# Altium schematic symbol library SYNCBOX_V3I1_1.SCHLIB: 99 symbols (part 3 of 3)
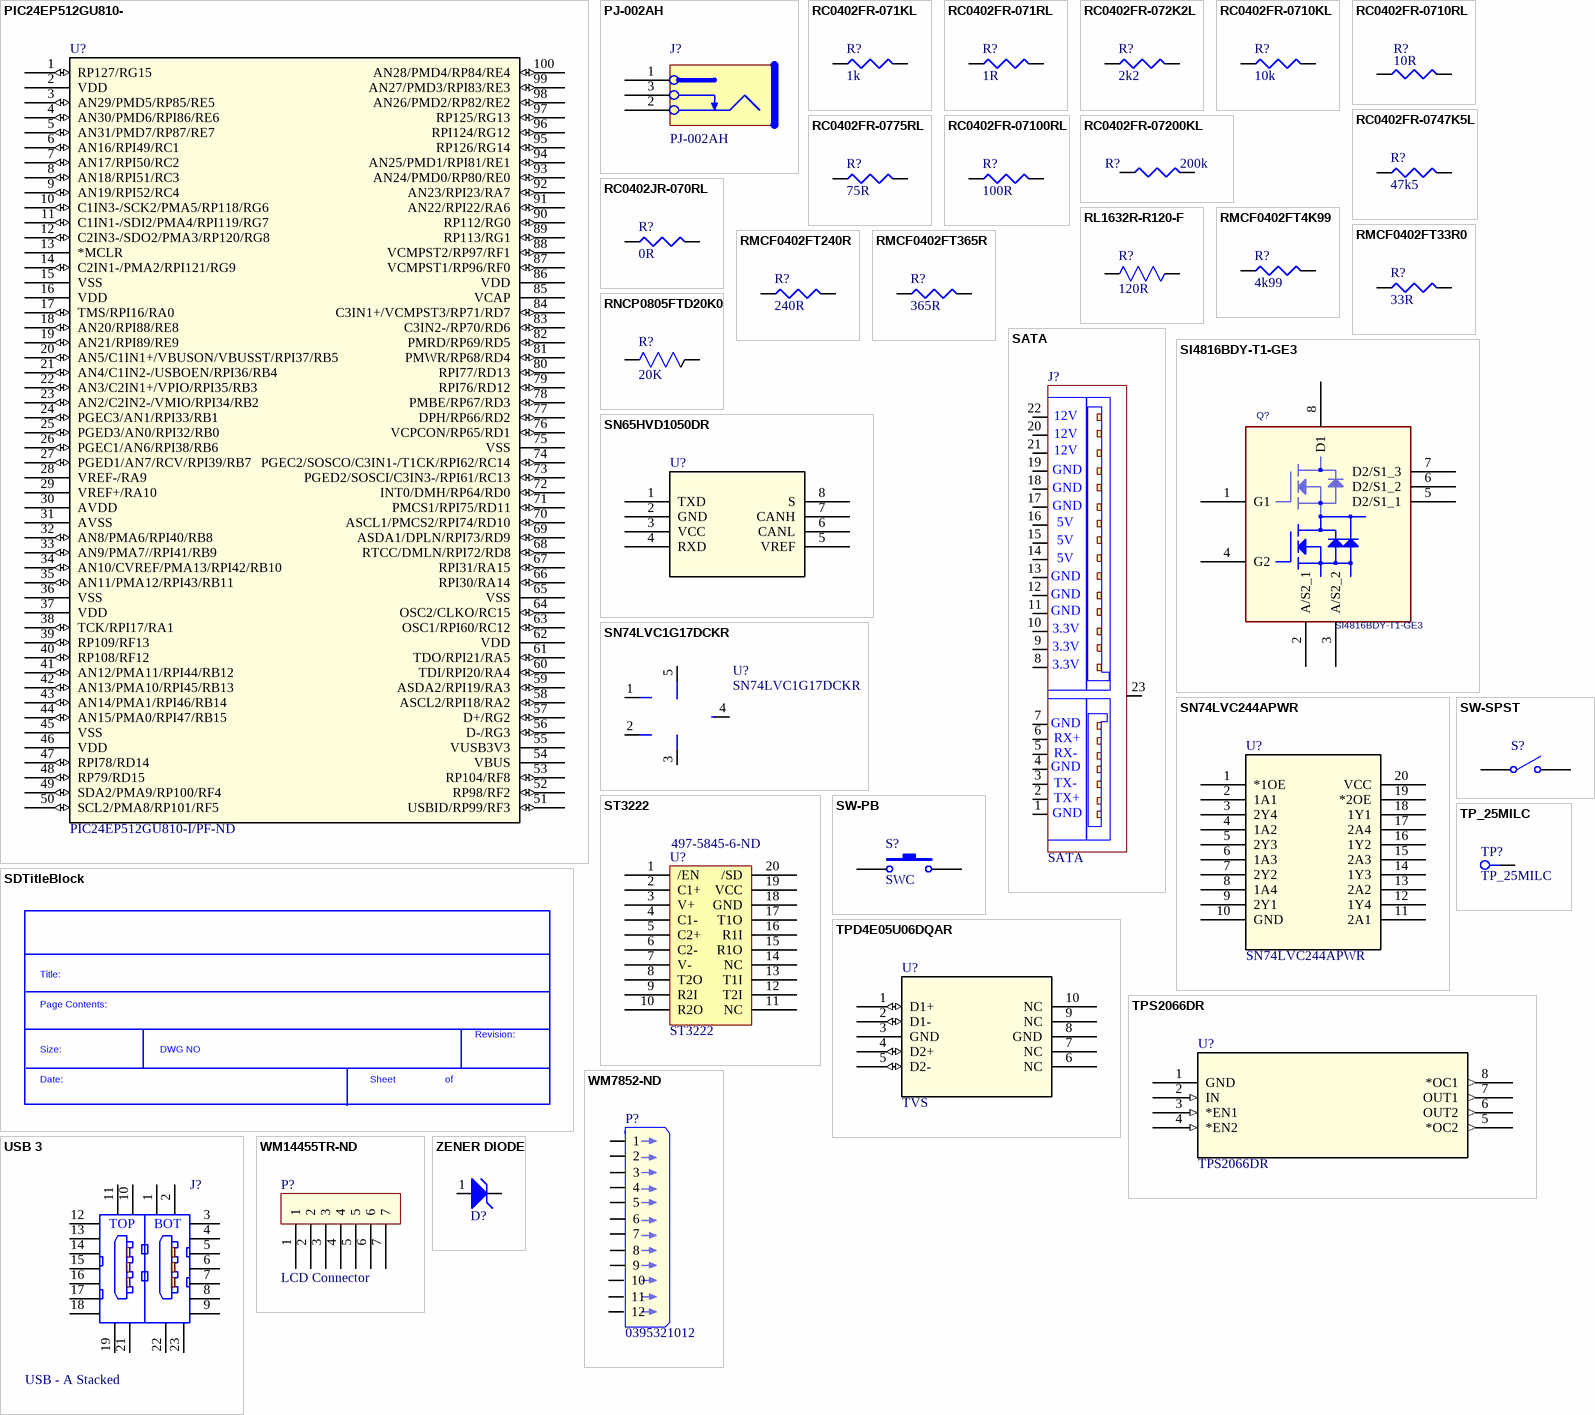
[diagram p4: symbols PIC24EP512GU810- to ZENER DIODE]

## RMCF0402FT33R0
designator R?, comment 33R
RES TF 33 OHM 1% 1/16W 0402; Manufacturer: Stackpole Electronics Inc; Manufacturer Part Number: RMCF0402FT33R0; Resistance (Ohms): 33; Power (Watts): 0.063W, 1/16W; .Checked PCB: CHK; Temperature Coefficient: ±100ppm/°C; Category: Resistors; Supplier Part Number: RMCF0402FT33R0CT-ND; Package / Case: 0402 (1005 Metric); Price 1k [$]: 0.00384; Tolerance: ±1%; Value: 33R; .Checked SCH: CHK; Supplier: Digikey; Supplier 1: Digi-Key; Supplier Part Number 1: RMCF0402FT33R0CT-ND; RoHS: RoHS Compliant; Stock 1: 26866; Pricing 1: 1=0.04, 10=0.025, 50=0.0138, 100=0.0105, 250=0.0078, 500=0.00576, 1000=0.00384 (USD); Composition: Thick Film; Features: -; Size / Dimension: 0.039" L x 0.020" W (1.00mm x 0.50mm); Height: 0.016" (0.40mm); Number of Terminations: 2; Packaging: Cut Tape (CT); ComponentLink1URL: http://www.seielect.com/Catalog/SEI-RMCF.pdf; ComponentLink1Description: http://www.seielect.com/Catalog/SEI-RMCF.pdf
footprint R0402
pins: 1, 2

## RMCF0402FT240R
designator R?, comment 240R
RES TF 240 OHM 1% 0.0625W 0402; Manufacturer: Stackpole Electronics Inc; Manufacturer Part Number: RMCF0402FT240R; Resistance (Ohms): 240; Power (Watts): 0.063W, 1/16W; .Checked PCB: CHK; Temperature Coefficient: ±100ppm/°C; Category: Resistors; Supplier Part Number: RMCF0402FT240RCT-ND; Package / Case: 0402 (1005 Metric); Price 1k [$]: 0.00384; Tolerance: ±1%; Value: 240R; .Checked SCH: CHK; Supplier: Digikey; Supplier 1: Digi-Key; Supplier Part Number 1: RMCF0402FT240RCT-ND; RoHS: RoHS Compliant; Stock 1: 39860; Pricing 1: 1=0.04, 10=0.025, 50=0.0138, 100=0.0105, 250=0.0078, 500=0.00576, 1000=0.00384 (USD); Composition: Thick Film; Features: -; Size / Dimension: 0.039" L x 0.020" W (1.00mm x 0.50mm); Height: 0.016" (0.40mm); Number of Terminations: 2; Packaging: Cut Tape (CT); ComponentLink1URL: http://www.seielect.com/Catalog/SEI-RMCF.pdf; ComponentLink1Description: http://www.seielect.com/Catalog/SEI-RMCF.pdf
footprint R0402
pins: 1, 2

## RMCF0402FT365R
designator R?, comment 365R
RES TF 365 OHM 1% 1/16W 0402; Manufacturer: Stackpole Electronics Inc; Manufacturer Part Number: RMCF0402FT365R; Resistance (Ohms): 365; Power (Watts): 0.063W, 1/16W; .Checked PCB: CHK; Temperature Coefficient: ±100ppm/°C; Category: Resistors; Supplier Part Number: RMCF0402FT365RCT-ND; Package / Case: 0402 (1005 Metric); Price 1k [$]: 0.00384; Tolerance: ±1%; Value: 365R; .Checked SCH: CHK; Supplier: Digikey; Supplier 1: Digi-Key; Supplier Part Number 1: RMCF0402FT365RCT-ND; RoHS: RoHS Compliant; Stock 1: 28385; Pricing 1: 1=0.04, 10=0.025, 50=0.0138, 100=0.0105, 250=0.0078, 500=0.00576, 1000=0.00384 (USD); Composition: Thick Film; Features: -; Size / Dimension: 0.039" L x 0.020" W (1.00mm x 0.50mm); Height: 0.016" (0.40mm); Number of Terminations: 2; Packaging: Cut Tape (CT); ComponentLink1URL: http://www.seielect.com/Catalog/SEI-RMCF.pdf; ComponentLink1Description: http://www.seielect.com/Catalog/SEI-RMCF.pdf
footprint R0402
pins: 1, 2

## RNCP0805FTD20K0
designator R?, comment 20K
Imported; Manufacturer_Part_Number: RNCP0805FTD20K0; Manufacturer 1: Stackpole Electronics Inc.; Vendor: Stackpole International; Built_By: EMA_UL_Team; C: Copyright (C) 2015 Accelerated Designs. All rights reserved; Tolerance: ±1%; Power (Watts): 0.25W, 1/4W; Temperature Coefficient: ±100ppm/°C; Description 1: RES 20K OHM 1% 1/4W 0805; .Checked PCB: CHK; RefDes: RefDes; Type: DEV; Value: 20K; Manufacturer Part Number 1: RNCP0805FTD20K0; RoHS: RoHS Compliant; Stock 1: 29130; Pricing 1: 1=0.1, 10=0.037, 100=0.015, 1000=0.00673, 2500=0.00584 (USD); Packaging: Cut Tape (CT); Part Status: Active; Composition: Thin Film; Features: Anti-Sulfur, Moisture Resistant; Operating Temperature: -55°C ~ 155°C; Package / Case: 0805 (2012 Metric); Supplier Device Package: 0805; Size / Dimension: 0.079" L x 0.049" W (2.01mm x 1.25mm); Height - Seated (Max): 0.024" (0.60mm); Failure Rate: -; ComponentLink1URL: https://www.seielect.com/Catalog/SEI-rncp.pdf; ComponentLink1Description: https://www.seielect.com/Catalog/SEI-rncp.pdf; Supplier 1: Digi-Key; Supplier Part Number 1: RNCP0805FTD20K0CT-ND; Category: Resistors; .Checked SCH: CHK
footprint STA_RNCP0805
pins: 1, 2

## SATA
designator J?
CONN SATA RECEPT 22POS SMD R/A; Manufacturer 1: Molex, LLC; Manufacturer Part Number 1: 0470182000; Connector Style: Receptacle; Number of Positions: 22; .Checked PCB: CHK; RoHS: RoHS Compliant; Stock 1: 2490; Pricing 1: 1=6.29, 10=6.028, 25=5.5036, 50=5.2414, 100=4.9793, 250=4.4552, 500=4.19312, 1000=3.66898, 2500=3.48553 (USD); Packaging: Tray; Part Status: Active; Connector Type: SATA; Mounting Type: Surface Mount, Right Angle; Termination: Solder; Features: Board Lock; Contact Finish: Gold; Contact Finish Thickness: Flash; ComponentLink1URL: https://www.molex.com/pdm_docs/sd/470182000_sd.pdf; ComponentLink1Description: https://www.molex.com/pdm_docs/sd/470182000_sd.pdf; Supplier 1: Digi-Key; Supplier Part Number 1: WM4050-ND; Description 1: CONN SATA RECEPT 22POS SMD R/A; Category: Connectors, Interconnects; .Checked SCH: CHK
footprint SATA_Recepticle (22 Pin Sata Connector)
pins: 1, 2, 3, 4, 5, 6, 7, 8, 9, 10, 11, 12, 13, 14, 15, 16, 17, 18, 19, 20, 21, 22, 23
text: 12V; GND; 5V; 3.3V; RX+; RX-; TX-; TX+

## SDTitleBlock
designator *?  (value not drawn)  (graphical)
text: Title:; Page Contents:; Revision:; Size:; DWG NO; Date:; Sheet; of

## SI4816BDY-T1-GE3
designator Q?
MOSFET DL N-CH 30V 6.8A 8-SOIC; Manufacturer: Vishay/Siliconix; .Checked PCB: CHK; FET Type: 2 N-Channel (Dual); FET Feature: Logic Level Gate; Rds On (Max) @ Id, Vgs: 18.5 mOhm @ 6.8A, 10V; Current - Continuous Drain (Id) @ 25° C: 5.8A, 8.2A; Vgs(th) (Max) @ Id: 3V @ 250µA; Power - Max: 1W, 1.25W; Gate Charge (Qg) @ Vgs: 10nC @ 5V; .Checked SCH: CHK; Category: Discrete Semiconductor Products; Manufacturer Part Number: SI4816BDY-T1-GE3; Package / Case: 8-SOIC (0.154", 3.90mm Width); Price 1k [$]: 0.84800; Value: SI4816BDY-T1-GE3; Family: FETs - Arrays; Drain to Source Voltage (Vdss): 30V; Supplier Part Number: SI4816BDY-T1-GE3CT-ND; Supplier: Digikey; Supplier 1: Digi-Key; Supplier Part Number 1: SI4816BDY-T1-GE3CT-ND; RoHS: RoHS Compliant; Stock 1: 15735; Pricing 1: 1=1.84, 25=1.4228, 100=1.2912, 250=1.1594, 500=1.0013, 1000=0.8432 (USD); Input Capacitance (Ciss) @ Vds: -; Mounting Type: Surface Mount; Supplier Device Package: 8-SOICN; Packaging: Cut Tape (CT); ComponentLink1URL: http://www.vishay.com/docs/73026/si4816bd.pdf; ComponentLink1Description: http://www.vishay.com/docs/73026/si4816bd.pdf
pins: 1 G1, 2 A/S2_1, 3 A/S2_2, 4 G2, 5 D2/S1_1, 6 D2/S1_2, 7 D2/S1_3, 8 D1

## SN65HVD1050DR
designator U?
IC EMC CAN TRANSCEIVER 8-SOIC; Manufacturer: Texas Instruments; Manufacturer_Part_Number: SN65HVD1050DR; Built_By: EMA_UL_Team; C: Copyright (C) 2015 Accelerated Designs. All rights reserved; Protocol: CANbus; Number of Drivers/Receivers: 1/1; Duplex: Half; Voltage - Supply: 4.5 V ~ 5.5 V; .Checked PCB: CHK; Vendor: Texas Instruments; RefDes: RefDes; Type: DEV; Value: Value; Manufacturer 1: Texas Instruments; Manufacturer Part Number 1: SN65HVD1050DR; RoHS: RoHS Compliant; Stock 1: 82774; Pricing 1: 1=1.36, 10=1.215, 100=0.9476, 500=0.7828, 1000=0.618 (USD); Packaging: Cut Tape (CT); Part Status: Active; Data Rate: -; Operating Temperature: -40°C ~ 125°C; Mounting Type: Surface Mount; Package / Case: 8-SOIC (0.154", 3.90mm Width); Supplier Device Package: 8-SOIC; Base Part Number: SN65HVD1050; ComponentLink1URL: http://www.ti.com/lit/ds/symlink/sn65hvd1050.pdf; ComponentLink1Description: http://www.ti.com/lit/ds/symlink/sn65hvd1050.pdf; Supplier 1: Digi-Key; Supplier Part Number 1: 296-26335-1-ND; Description 1: IC EMC CAN TRANSCEIVER 8-SOIC; Category: Integrated Circuits (ICs); .Checked SCH: CHK
footprint D8
pins: 1 TXD, 2 GND (power), 3 VCC (power), 4 RXD, 5 VREF (power), 6 CANL, 7 CANH, 8 S

## SN74LVC1G17DCKR
designator U?
Manufacturer: Texas Instruments; Built_By: EMA_UL_Team; C: Copyright (C) 2015 Accelerated Designs. All rights reserved; Logic Type: Buffer, Non-Inverting; Number of Bits per Element: 1; Input Type: Schmitt Trigger; Output Type: Push-Pull; Current - Output High, Low: 32mA, 32mA; Voltage - Supply: 1.65 V ~ 5.5 V; Description 1: IC BUF NON-INVERT 5.5V SC70-5; .Checked PCB: CHK; Vendor: Texas Instruments; Manufacturer_Part_Number: SN74LVC1G17DCKR; RefDes: RefDes; Type: DEV; Value: Value; Manufacturer 1: Texas Instruments; Manufacturer Part Number 1: SN74LVC1G17DCKR; RoHS: RoHS Compliant; Stock 1: 206797; Pricing 1: 1=0.43, 10=0.32, 100=0.1996, 500=0.13658, 1000=0.10506 (USD); Packaging: Digi-Reel®; Part Status: Active; Operating Temperature: -40°C ~ 125°C (TA); Mounting Type: Surface Mount; Package / Case: 5-TSSOP, SC-70-5, SOT-353; Supplier Device Package: SC-70-5; Base Part Number: 74LVC1G17; ComponentLink1URL: http://www.ti.com/lit/ds/symlink/sn74lvc1g17.pdf; ComponentLink1Description: http://www.ti.com/lit/ds/symlink/sn74lvc1g17.pdf; Supplier 1: Digi-Key; Supplier Part Number 1: 296-11934-6-ND; Category: Integrated Circuits (ICs); .Checked SCH: CHK
footprint DCK5
footprint DCK5-L
footprint DCK5-M
pins: 1 NC, 2 A, 3 GND, 4 Y, 5 VCC

## SN74LVC244APWR
designator U?
IC BUF NON-INVERT 3.6V 20TSSOP; Manufacturer: Texas Instruments; Built_By: EMA_UL_Team; C: Copyright (C) 2015 Accelerated Designs. All rights reserved; Logic Type: Buffer, Non-Inverting; Number of Bits per Element: 4; Output Type: 3-State; Current - Output High, Low: 24mA, 24mA; Voltage - Supply: 1.65 V ~ 3.6 V; .Checked PCB: CHK; Vendor: Vendor; Manufacturer_Part_Number: SN74LVC244APWR; RefDes: RefDes; Type: DEV; Value: Value; Manufacturer 1: Texas Instruments; Manufacturer Part Number 1: SN74LVC244APWR; RoHS: RoHS Compliant; Stock 1: 67361; Pricing 1: 1=0.47, 10=0.402, 100=0.2999, 500=0.23566, 1000=0.1821 (USD); Packaging: Digi-Reel®; Part Status: Active; Input Type: -; Operating Temperature: -40°C ~ 125°C (TA); Mounting Type: Surface Mount; Package / Case: 20-TSSOP (0.173", 4.40mm Width); Supplier Device Package: 20-TSSOP; Base Part Number: 74LVC244; ComponentLink1URL: http://www.ti.com/lit/ds/symlink/sn74lvc244a.pdf; ComponentLink1Description: http://www.ti.com/lit/ds/symlink/sn74lvc244a.pdf; Supplier 1: Digi-Key; Supplier Part Number 1: 296-1230-6-ND; Description 1: IC BUF NON-INVERT 3.6V 20TSSOP; Category: Integrated Circuits (ICs); .Checked SCH: CHK
footprint PW20-L
footprint PW20-M
footprint PW20
pins: 1 *1OE, 2 1A1, 3 2Y4, 4 1A2, 5 2Y3, 6 1A3, 7 2Y2, 8 1A4, 9 2Y1, 10 GND (power), 11 2A1, 12 1Y4, 13 2A2, 14 1Y3, 15 2A3, 16 1Y2, 17 2A4, 18 1Y1, 19 *2OE, 20 VCC (power)

## ST3222
designator U?  Supplier Part Number 1: 497-5845-6-ND
ST Dual RS232 Transceiver; Manufacturer 1: STMicroelectronics; Manufacturer Part Number 1: ST3222BTR; .Checked PCB: CHK; Description 1: IC DRIVER/RCVR RS232 LP 20-TSSOP; Number of Drivers/Receivers: 2/2; Duplex: Full; Data Rate: 250kbps; Voltage - Supply: 3 V ~ 3.6 V; Digikey P/N: 497-5845-2-ND; .Checked SCH: CHK; Supplier 1: Digi-Key; RoHS: RoHS Compliant; Category: Integrated Circuits (ICs); Stock 1: 3064; Pricing 1: 1=1.32, 10=1.183, 100=0.9225, 500=0.76206, 1000=0.60162 (USD); Packaging: Digi-Reel®; Part Status: Active; Type: Transceiver; Protocol: RS232; Operating Temperature: -40°C ~ 85°C; Mounting Type: Surface Mount; Package / Case: 20-TSSOP (0.173", 4.40mm Width); Supplier Device Package: 20-TSSOP; Base Part Number: ST3222; ComponentLink1URL: http://www.st.com/content/ccc/resource/technical/document/datasheet/a7/2a/91/f8/35/8c/40/de/CD00002292.pdf/files/CD00002292.pdf/jcr:content/translations/en.CD00002292.pdf; ComponentLink1Description: http://www.st.com/content/ccc/resource/technical/document/datasheet/a7/2a/91/f8/35/8c/40/de/CD00002292.pdf/files/CD00002292.pdf/jcr:content/translations/en.CD00002292.pdf
footprint TSSOP20 (SO20 - 20 Leads; Body Width 7.5 mm; Pitch 1.27 mm)
pins: 1 /EN, 2 C1+, 3 V+, 4 C1-, 5 C2+, 6 C2-, 7 V-, 8 T2O, 9 R2I, 10 R2O, 11 NC, 12 T2I, 13 T1I, 14 NC, 15 R1O, 16 R1I, 17 T1O, 18 GND, 19 VCC, 20 /SD

## SW-PB
designator S?, comment SWC
Switch; Manufacturer 1: E-Switch; Manufacturer Part Number 1: TL3305AF160QG; .Checked PCB: CHK; Description 1: SWITCH TACTILE SPST-NO 50MA 12V; Circuit: SPST-NO; Switch Function: Off-Mom; Contact Rating @ Voltage: 0.05A @ 12VDC; Actuator Type: Standard; Actuator Height off PCB, Vertical: 3.80mm; Actuator Orientation: Top Actuated; Outline: 4.50mm x 4.50mm; Illumination: Non-Illuminated; Operating Force: 160gf; Switch Travel: 0.20mm; Mechanical Life: 500,000 Cycles; Published: 24-Mar-1999; LatestRevisionDate: 17-Jul-2002; LatestRevisionNote: Re-released for DXP Platform.; PackageReference: SPST-2; Publisher: Altium Limited; PackageDescription: Switch; 2 Leads; .Checked SCH: CHK; Supplier 1: Digi-Key; Supplier Part Number 1: EG5350CT-ND; RoHS: RoHS Compliant; Category: Switches; Stock 1: 53999; Pricing 1: 1=0.22, 10=0.217, 25=0.2096, 50=0.202, 100=0.1907, 250=0.17952, 500=0.17204, 1000=0.1309 (USD); Packaging: Cut Tape (CT); Part Status: Active; Mounting Type: Surface Mount; Actuator Length, Right Angle: -; Termination Style: Gull Wing; Illumination Type, Color: -; Illumination Voltage (Nominal): -; Ingress Protection: -; Features: -; Operating Temperature: -20°C ~ 70°C; Actuator Material: -; ComponentLink1URL: http://spec_sheets.e-switch.com/specs/P010468.pdf; ComponentLink1Description: http://spec_sheets.e-switch.com/specs/P010468.pdf
footprint TactileSW_SMD
pins: 1, 2

## SW-SPST
designator S?, comment EG2578-ND  (value not drawn)
SWITCH ROCKER SPST 15A 125V; Manufacturer 1: E-Switch; Manufacturer Part Number 1: R1966ABLKBLKGR; .Checked PCB: CHK; Switch Function: On-Off; Current Rating: 15A (AC); Actuator Type: Concave (Curved); Color - Actuator/Cap: Black; Actuator Marking: O I; Mechanical Life: 30,000 Cycles; Electrical Life: 10,000 Cycles; .Checked SCH: CHK; Supplier 1: Digi-Key; Supplier Part Number 1: EG2578-ND; RoHS: RoHS Compliant; Description 1: SWITCH ROCKER SPST 15A 125V; Category: Switches; Stock 1: 9; Pricing 1: 1=1.58, 10=1.507, 25=1.4384, 50=1.37, 100=1.3015, 250=1.26724, 500=1.19876, 1000=1.06175, 5000=1.0275 (USD); Packaging: Bulk; Part Status: Active; Circuit: SPST; Illumination Type, Color: -; Illumination Voltage (Nominal): -; Mounting Type: Panel Mount, Snap-In, Right Angle; Termination Style: PC Pin; Ingress Protection: -; Features: -; Panel Cutout Dimensions: Rectangular - 19.40mm x 13.00mm; Operating Temperature: -30°C ~ 65°C; ComponentLink1URL: http://spec_sheets.e-switch.com/specs/M301223.pdf; ComponentLink1Description: http://spec_sheets.e-switch.com/specs/M301223.pdf
footprint RockerSwitch
pins: 1 COMMON, 2 NO

## TP_25MILC
designator TP?  (no BOM)
Test Point 25mil; .Checked PCB: CHK; .Checked SCH: CHK
footprint TP_25C
pins: 1

## TPD4E05U06DQAR
designator U?, comment TVS
Imported; Manufacturer_Part_Number: TPD4E05U06DQAR; Vendor: Texas Instruments; Built_By: EMA_UL_Team; C: Copyright (C) 2016 Accelerated Designs. All rights reserved; Voltage - Reverse Standoff (Typ): 5.5V (Max); Voltage - Breakdown (Min): 6V; Voltage - Clamping (Max) @ Ipp: 14V; Current - Peak Pulse (10/1000µs): 2.5A (8/20µs); Power - Peak Pulse: 40W; Power Line Protection: Yes; Description 1: TVS DIODE 5.5V 14V 10SON; .Checked PCB: CHK; RefDes: RefDes; Type: DEV; Value: Value; Manufacturer 1: Texas Instruments; Manufacturer Part Number 1: TPD4E05U06DQAR; RoHS: RoHS Compliant; Stock 1: 74653; Pricing 1: 1=0.66, 10=0.578, 100=0.4433, 500=0.3504, 1000=0.28032 (USD); Packaging: Digi-Reel®; Part Status: Active; Applications: HDMI; Capacitance @ Frequency: -; Operating Temperature: -40°C ~ 125°C (TA); Mounting Type: Surface Mount; Package / Case: 10-UFDFN; Supplier Device Package: 10-USON (2.5x1); Base Part Number: TPD4E05U06; ComponentLink1URL: http://www.ti.com/lit/ds/symlink/tpd4e05u06.pdf; ComponentLink1Description: http://www.ti.com/lit/ds/symlink/tpd4e05u06.pdf; Supplier 1: Digi-Key; Supplier Part Number 1: 296-35765-6-ND; Category: Circuit Protection; .Checked SCH: CHK
footprint DQA10
pins: 1 D1+ (io), 2 D1- (io), 3 GND (power), 4 D2+ (io), 5 D2- (io), 6 NC, 7 NC, 8 GND (power), 9 NC, 10 NC

## TPS2066DR
designator U?
IC PWR DIST SW DUAL 8SOIC; Vendor: Texas Instruments; Built_By: EMA_UL_Team; C: Copyright (C) 2015 Accelerated Designs. All rights reserved; .Checked PCB: CHK; Switch Type: General Purpose; Number of Outputs: 2; Ratio - Input:Output: 1:2; Output Configuration: High Side; Output Type: N-Channel; Interface: On/Off; Voltage - Load: 2.7 V ~ 5.5 V; Voltage - Supply (Vcc/Vdd): Not Required; Current - Output (Max): 1A; Rds On (Typ): 70 mOhm; Input Type: Non-Inverting; Fault Protection: Current Limiting (Fixed), Over Temperature, UVLO; Manufacturer_Part_Number: TPS2066DR; Manufacturer: Texas Instruments; RefDes: RefDes; Type: DEV; Value: Value; .Checked SCH: CHK; Supplier 1: Digi-Key; Supplier Part Number 1: 296-28004-1-ND; Manufacturer 1: Texas Instruments; Manufacturer Part Number 1: TPS2066DR; RoHS: RoHS Compliant; Description 1: IC PWR DIST SW DUAL 8SOIC; Category: Integrated Circuits (ICs); Stock 1: 12511; Pricing 1: 1=1.87, 10=1.681, 100=1.3514, 500=1.11034, 1000=0.92 (USD); Packaging: Cut Tape (CT); Part Status: Active; Features: Status Flag; Operating Temperature: -40°C ~ 125°C (TJ); Package / Case: 8-SOIC (0.154", 3.90mm Width); Supplier Device Package: 8-SOIC; Base Part Number: TPS2066; ComponentLink1URL: http://www.ti.com/lit/ds/symlink/tps2061.pdf; ComponentLink1Description: http://www.ti.com/lit/ds/symlink/tps2061.pdf
footprint D8
pins: 1 GND (power), 2 IN (in), 3 *EN1 (in), 4 *EN2 (in), 5 *OC2 (out), 6 OUT2 (out), 7 OUT1 (out), 8 *OC1 (out)

## USB 3
designator J?, comment USB - A Stacked
Manufacturer 1: Molex, LLC; Manufacturer Part Number 1: 0484060003; Connector Type: USB - A, Stacked; Number of Contacts: 18; Gender: Receptacle; Specifications: USB 3.0 (USB 3.1 Gen 1, Superspeed); Current Rating: 0.25A, 1.8A; Voltage - Rated: 30VAC/DC; Mating Cycles: 5000; Shielding: Shielded; Material Flammability Rating: UL94 HB; Description 1: USB 3.0 RA DUAL REC TH TYPE A; .Checked PCB: CHK; RoHS: RoHS Compliant; Stock 1: 11990; Pricing 1: 1=2.23, 10=2.026, 25=1.902, 50=1.8194, 100=1.7367, 250=1.57132, 500=1.44726, 1000=1.2405, 2500=1.1578 (USD); Packaging: Tray; Part Status: Active; Mounting Type: Through Hole, Right Angle; Mounting Feature: Horizontal; Termination: Solder; Features: Board Lock; Ingress Protection: -; Operating Temperature: -20°C ~ 85°C; Contact Finish: Gold; Shell/Shielding Material: Steel, Stainless; Insulation Color: Blue; ComponentLink1URL: https://www.molex.com/pdm_docs/sd/484060003_sd.pdf; ComponentLink1Description: https://www.molex.com/pdm_docs/sd/484060003_sd.pdf; Category: Connectors, Interconnects; Supplier 1: Digi-Key; Supplier Part Number 1: WM10420-ND; .Checked SCH: CHK
footprint USB 3 STACK
pins: 1 VBUS1 (power), 2 D1-, 3 D1+, 4 GND (power), 5 SSRX0-, 6 SSRX0+, 7 GND_DRAIN1, 8 SSTX0-, 9 SSTX0+, 10 VBUS2 (power), 11 D2-, 12 D2+, 13 GND (power), 14 SSRX2-, 15 SSRX2+, 16 GND_DRAIN2, 17 SSTX2-, 18 SSTX2+, 19 SHIELD, 21 SHIELD, 22 SHIELD, 23 SHIELD
text: TOP; BOT

## WM7852-ND
designator P?, comment 0395321012
TERM BLOCK HDR 12POS 5.08MM; Manufacturer 1: Molex, LLC; Number of Positions: 12; Number of Levels: 1; Pitch: 0.200" (5.08mm); Header Orientation: 90°, Right Angle; Material Flammability Rating: UL94 V-0; Contact Tail Length: 0.150" (3.81mm); Manufacturer Part Number 1: 0395321012; RoHS: RoHS Compliant; Stock 1: 207; Pricing 1: 1=3.15, 10=3.02, 100=2.5164, 500=2.1389, 1000=1.82436, 5000=1.63563 (USD); Packaging: Bulk; Part Status: Active; Type: Header, Male Pins, Shrouded (4 Side); Positions Per Level: 12; Plug Wire Entry: -; Termination Style: Solder; Mounting Type: Through Hole; Current - IEC: -; Wire Gauge or Range - AWG: -; Wire Gauge or Range - mm²: -; Color: Black; Operating Temperature: -40°C ~ 105°C; Contact Mating Finish: Tin; Features: -; Ingress Protection: -; Screw Size: -; Torque - Screw: -; Wire Strip Length: -; Contact Material: Brass; Housing Material: Polyamide (PA66), Nylon 6/6; Insulation Height: 0.472" (12.00mm); ComponentLink1URL: https://www.molex.com/pdm_docs/sd/395321002_sd.pdf; ComponentLink1Description: https://www.molex.com/pdm_docs/sd/395321002_sd.pdf; Supplier 1: Digi-Key; Supplier Part Number 1: WM7852-ND; Description 1: TERM BLOCK HDR 12POS 5.08MM; Category: Connectors, Interconnects
footprint WM7852-ND
pins: 1, 2, 3, 4, 5, 6, 7, 8, 9, 10, 11, 12

## WM14455TR-ND
designator P?, comment LCD Connector
Molex 7 Pin HDR; Manufacturer: Molex, LLC; Manufacturer Part Number: 5023520700; Connector Type: Header; Pitch - Mating: 0.079" (2.00mm); Number of Positions: 7; Number of Positions Loaded: All; Style: Board to Cable/Wire; Shrouding: Shrouded - 4 Wall; Contact Length - Mating: 0.136" (3.45mm); Material Flammability Rating: UL94 V-0; .Checked PCB: CHK; Supplier 1: Digi-Key; RoHS: RoHS Compliant; Category: Connectors, Interconnects; Stock 1: 1400; Pricing 1: 700=0.7749, 1400=0.6888, 2100=0.64575, 3500=0.62423, 4900=0.6027, 17500=0.55965 (USD); Packaging: Tape & Reel (TR); Part Status: Active; Contact Type: Male Pin; Number of Rows: 1; Row Spacing - Mating: -; Mounting Type: Surface Mount, Right Angle; Termination: Solder; Fastening Type: Latch Lock; Contact Length - Post: -; Overall Contact Length: -; Insulation Height: 0.252" (6.40mm); Contact Shape: Square; Contact Finish - Mating: Tin; Contact Finish Thickness - Mating: -; Contact Finish - Post: Tin; Contact Material: Copper Alloy; Insulation Material: Polyamide (PA), Nylon; Features: Solder Retention; Operating Temperature: -; Ingress Protection: -; Insulation Color: Natural; Current Rating: -; Voltage Rating: -; Mated Stacking Heights: -; Contact Finish Thickness - Post: -; Applications: Automotive, Industrial; ComponentLink1URL: https://www.molex.com/pdm_docs/sd/5023520700_sd.pdf; ComponentLink1Description: https://www.molex.com/pdm_docs/sd/5023520700_sd.pdf; Supplier Part Number 1: WM14455TR-ND; .Checked SCH: CHK
footprint WM3412-ND
pins: 1, 2, 3, 4, 5, 6, 7

## ZENER DIODE
designator D?  (value not drawn)
TVS DIODE 12V 19.9V SMA; Manufacturer: Bourns Inc.; Manufacturer Part Number: SMAJ12A; Voltage - Breakdown (Min): 13.3V; Current - Peak Pulse (10/1000µs): 20.1A; Power - Peak Pulse: 400W; Power Line Protection: No; .Checked PCB: CHK; Supplier 1: Digi-Key; RoHS: RoHS Compliant; Category: Circuit Protection; Stock 1: 20433; Pricing 1: 1=0.47, 10=0.329, 25=0.27, 100=0.216, 250=0.15712, 500=0.12766, 1000=0.0982, 2500=0.08838 (USD); Packaging: Cut Tape (CT); Part Status: Active; Type: Zener; Voltage - Reverse Standoff (Typ): 12V; Voltage - Clamping (Max) @ Ipp: 19.9V; Applications: General Purpose; Capacitance @ Frequency: -; Operating Temperature: -55°C ~ 150°C (TJ); Mounting Type: Surface Mount; Package / Case: DO-214AC, SMA; Supplier Device Package: SMA (DO-214AC); ComponentLink1URL: https://www.bourns.com/docs/Product-Datasheets/SMAJ.pdf; ComponentLink1Description: https://www.bourns.com/docs/Product-Datasheets/SMAJ.pdf; Supplier Part Number 1: SMAJ12ABCT-ND; .Checked SCH: CHK
footprint SMA / DO-214AC
pins: 1 A, 2 K